# EAGLE library part SIM800H (library SIMCOM)
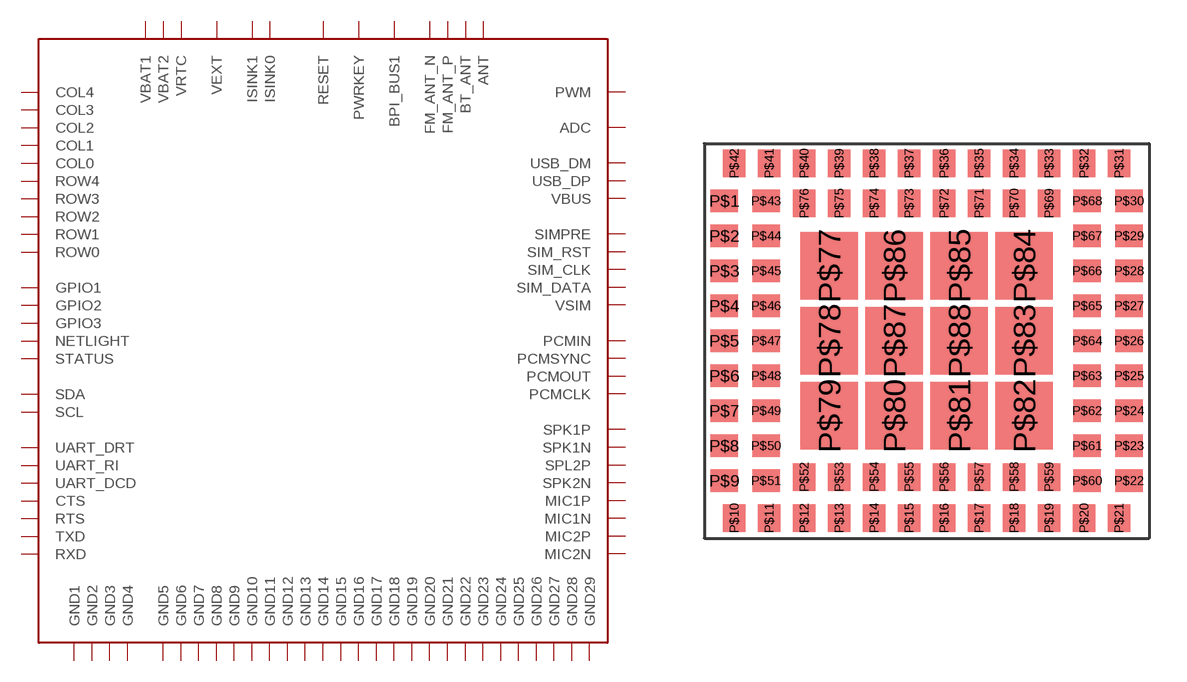
[diagram p0: symbol with the pads of SIM800; footprint SIM800]

Designator prefix -

## SIM800H  [SIM800]
P$1  VBAT1
P$2  GND1
P$3  GPIO1
P$4  STATUS
P$5  BPI_BUS1
P$6  GND10
P$7  VBUS
P$8  GND11
P$9  MIC2P
P$10  MIC2N
P$11  SPK2N
P$12  MIC1N
P$13  SPK1N
P$14  SIM_DATA
P$15  SIM_RST
P$16  VSIM
P$17  FM_ANT_P
P$18  VEXT
P$19  USB_DM
P$20  COL0
P$21  COL3
P$22  COL2
P$23  ROW3
P$24  COL4
P$25  COL1
P$26  PWM
P$27  GPIO2
P$28  GPIO3
P$29  PCMCLK
P$30  PCMOUT
P$31  RXD
P$32  TXD
P$33  RTS
P$34  CTS
P$35  GND5
P$36  BT_ANT
P$37  GND6
P$38  GND7
P$39  GND8
P$40  ANT
P$41  GND12
P$42  VBAT2
P$43  GND2
P$44  GND3
P$45  GND4
P$46  ISINK1
P$47  ISINK0
P$48  PWRKEY
P$49  RESET
P$50  ADC
P$51  SPL2P
P$52  MIC1P
P$53  SPK1P
P$54  SIMPRE
P$55  SIM_CLK
P$56  VRTC
P$57  FM_ANT_N
P$58  GND9
P$59  USB_DP
P$60  ROW1
P$61  ROW2
P$62  ROW0
P$63  ROW4
P$64  NETLIGHT
P$65  PCMSYNC
P$66  PCMIN
P$67  GND13
P$68  UART_RI
P$69  UART_DRT
P$70  UART_DCD
P$71  GND14
P$72  GND15
P$73  GND16
P$74  SCL
P$75  SDA
P$76  GND17
P$77  GND18
P$78  GND19
P$79  GND20
P$80  GND21
P$81  GND22
P$82  GND23
P$83  GND24
P$84  GND25
P$85  GND26
P$86  GND27
P$87  GND28
P$88  GND29

## Footprint SIM800 (pad centres in mm)
smd 1.1 x 0.9: P$1 0.8,-2.3; P$2 0.8,-3.7; P$3 0.8,-5.1; P$4 0.8,-6.5; P$5 0.8,-7.9; P$6 0.8,-9.3; P$7 0.8,-10.7; P$8 0.8,-12.1; P$9 0.8,-13.5; P$22 17,-13.5; P$23 17,-12.1; P$24 17,-10.7; P$25 17,-9.3; P$26 17,-7.9; P$27 17,-6.5; P$28 17,-5.1; P$29 17,-3.7; P$30 17,-2.3; P$43 2.475,-2.3; P$44 2.475,-3.7; P$45 2.475,-5.1; P$46 2.475,-6.5; P$47 2.475,-7.9; P$48 2.475,-9.3; P$49 2.475,-10.7; P$50 2.475,-12.1; P$51 2.475,-13.5; P$60 15.325,-13.5; P$61 15.325,-12.1; P$62 15.325,-10.7; P$63 15.325,-9.3; P$64 15.325,-7.9; P$65 15.325,-6.5; P$66 15.325,-5.1; P$67 15.325,-3.7; P$68 15.325,-2.3
smd 0.9 x 1.1: P$10 1.2,-15; P$11 2.6,-15; P$12 4,-15; P$13 5.4,-15; P$14 6.8,-15; P$15 8.2,-15; P$16 9.6,-15; P$17 11,-15; P$18 12.4,-15; P$19 13.8,-15; P$20 15.2,-15; P$21 16.6,-15; P$31 16.6,-0.8; P$32 15.2,-0.8; P$33 13.8,-0.8; P$34 12.4,-0.8; P$35 11,-0.8; P$36 9.6,-0.8; P$37 8.2,-0.8; P$38 6.8,-0.8; P$39 5.4,-0.8; P$40 4,-0.8; P$41 2.6,-0.8; P$42 1.2,-0.8; P$52 4,-13.35; P$53 5.4,-13.35; P$54 6.8,-13.35; P$55 8.2,-13.35; P$56 9.6,-13.35; P$57 11,-13.35; P$58 12.4,-13.35; P$59 13.8,-13.35; P$69 13.8,-2.4; P$70 12.4,-2.4; P$71 11,-2.4; P$72 9.6,-2.4; P$73 8.2,-2.4; P$74 6.8,-2.4; P$75 5.4,-2.4; P$76 4,-2.4
smd 2.3 x 2.7: P$77 5,-4.9; P$78 5,-7.9; P$79 5,-10.9; P$80 7.6,-10.9; P$81 10.2,-10.9; P$82 12.8,-10.9; P$83 12.8,-7.9; P$84 12.8,-4.9; P$85 10.2,-4.9; P$86 7.6,-4.9; P$87 7.6,-7.9; P$88 10.2,-7.9